# EAGLE library part LM5060 (library dash_power_supply)
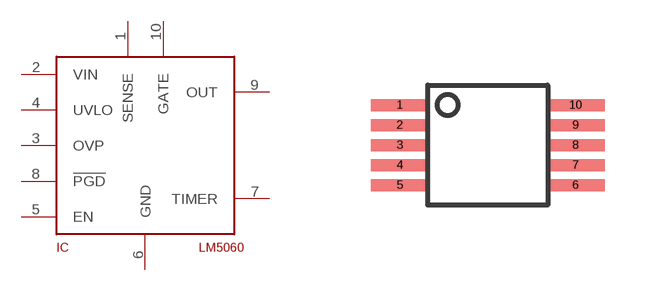
[diagram p0: symbol with the pads of VSSOP-10; footprint VSSOP-10]

Designator prefix IC

## LM5060  [VSSOP-10]
1  SENSE
2  VIN
3  OVP
4  UVLO
5  EN
6  GND
7  TIMER
8  !PGD
9  OUT
10  GATE

## Footprint VSSOP-10 (pad centres in mm)
smd 1.45 x 0.3: 1 -2.2,1; 2 -2.2,0.5; 3 -2.2,0; 4 -2.2,-0.5; 5 -2.2,-1; 6 2.2,-1; 7 2.2,-0.5; 8 2.2,0; 9 2.2,0.5; 10 2.2,1